# EAGLE library part 524X (library switch-apem)
DPDT 5000 Series Toggle Switch
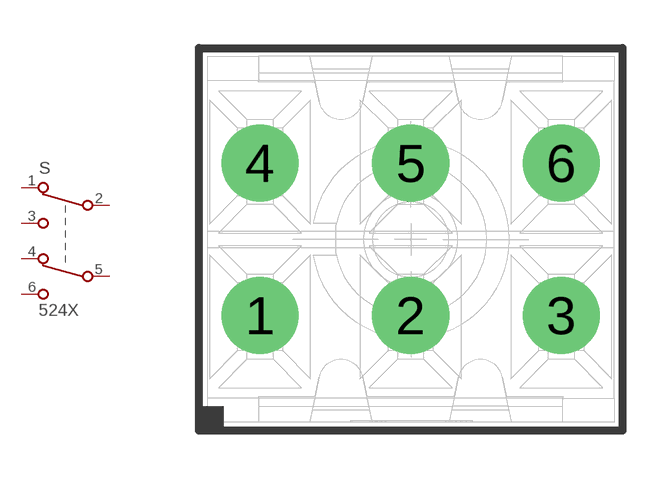
[diagram p0: symbol with the pads of 524X; footprint 524X]

Designator prefix S

## 524X  [524X]
1  A-NC  pas
2  A-COM  pas
3  A-NO  pas
4  B-NC  pas
5  B-COM  pas
6  B-NO  pas

## Footprint 524X (pad centres in mm)
drill 1.6: 1 -4.699,-2.375; 2 0,-2.375; 3 4.699,-2.375; 4 -4.699,2.375; 5 0,2.375; 6 4.699,2.375